# Altium footprint library CONN-16PIN-LCD.PcbLib: 1 footprints
Each footprint in its own frame and in the unit in brackets; x right, y up, seen from the top. Pads: shape width x height; smd on the part's side, far side on the other; paste and mask are expansions set on the pad; w line width, h text height; cw(c..) or ccw(c..) is an arc to the next point about the centre after c.
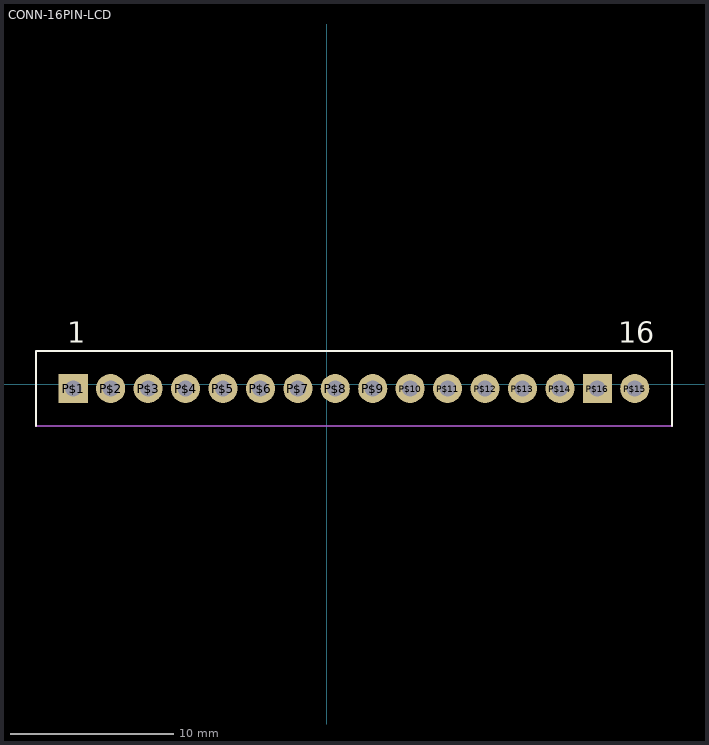
[diagram p0: the footprint, top view; thin cyan lines are the x and y axes]

## CONN-16PIN-LCD [mil]
pads (16):
  rect 70x70 hole 39.37: P$1(-610,-10) P$16(650,-10)
  round 70 hole 39.37: P$2(-520,-10) P$3(-430,-10) P$4(-340,-10) P$5(-250,-10) P$6(-160,-10) P$7(-70,-10) P$8(20,-10) P$9(110,-10) P$10(200,-10) P$11(290,-10) P$12(380,-10) P$13(470,-10) P$14(560,-10) P$15(740,-10)
Top Overlay:
  lines w5: -700,-100 -700,80 830,80 830,-100
  text "1" at -625,100 h50
  text "16" at 700,100 h50
Mechanical 13:
  lines w5: -700,-100 830,-100